# Altium footprint library Ale.PcbLib: 181 footprints (part 6 of 12)
Each footprint in its own frame and in the unit in brackets; x right, y up, seen from the top. Pads: shape width x height; smd on the part's side, far side on the other; paste and mask are expansions set on the pad; w line width, h text height; cw(c..) or ccw(c..) is an arc to the next point about the centre after c.
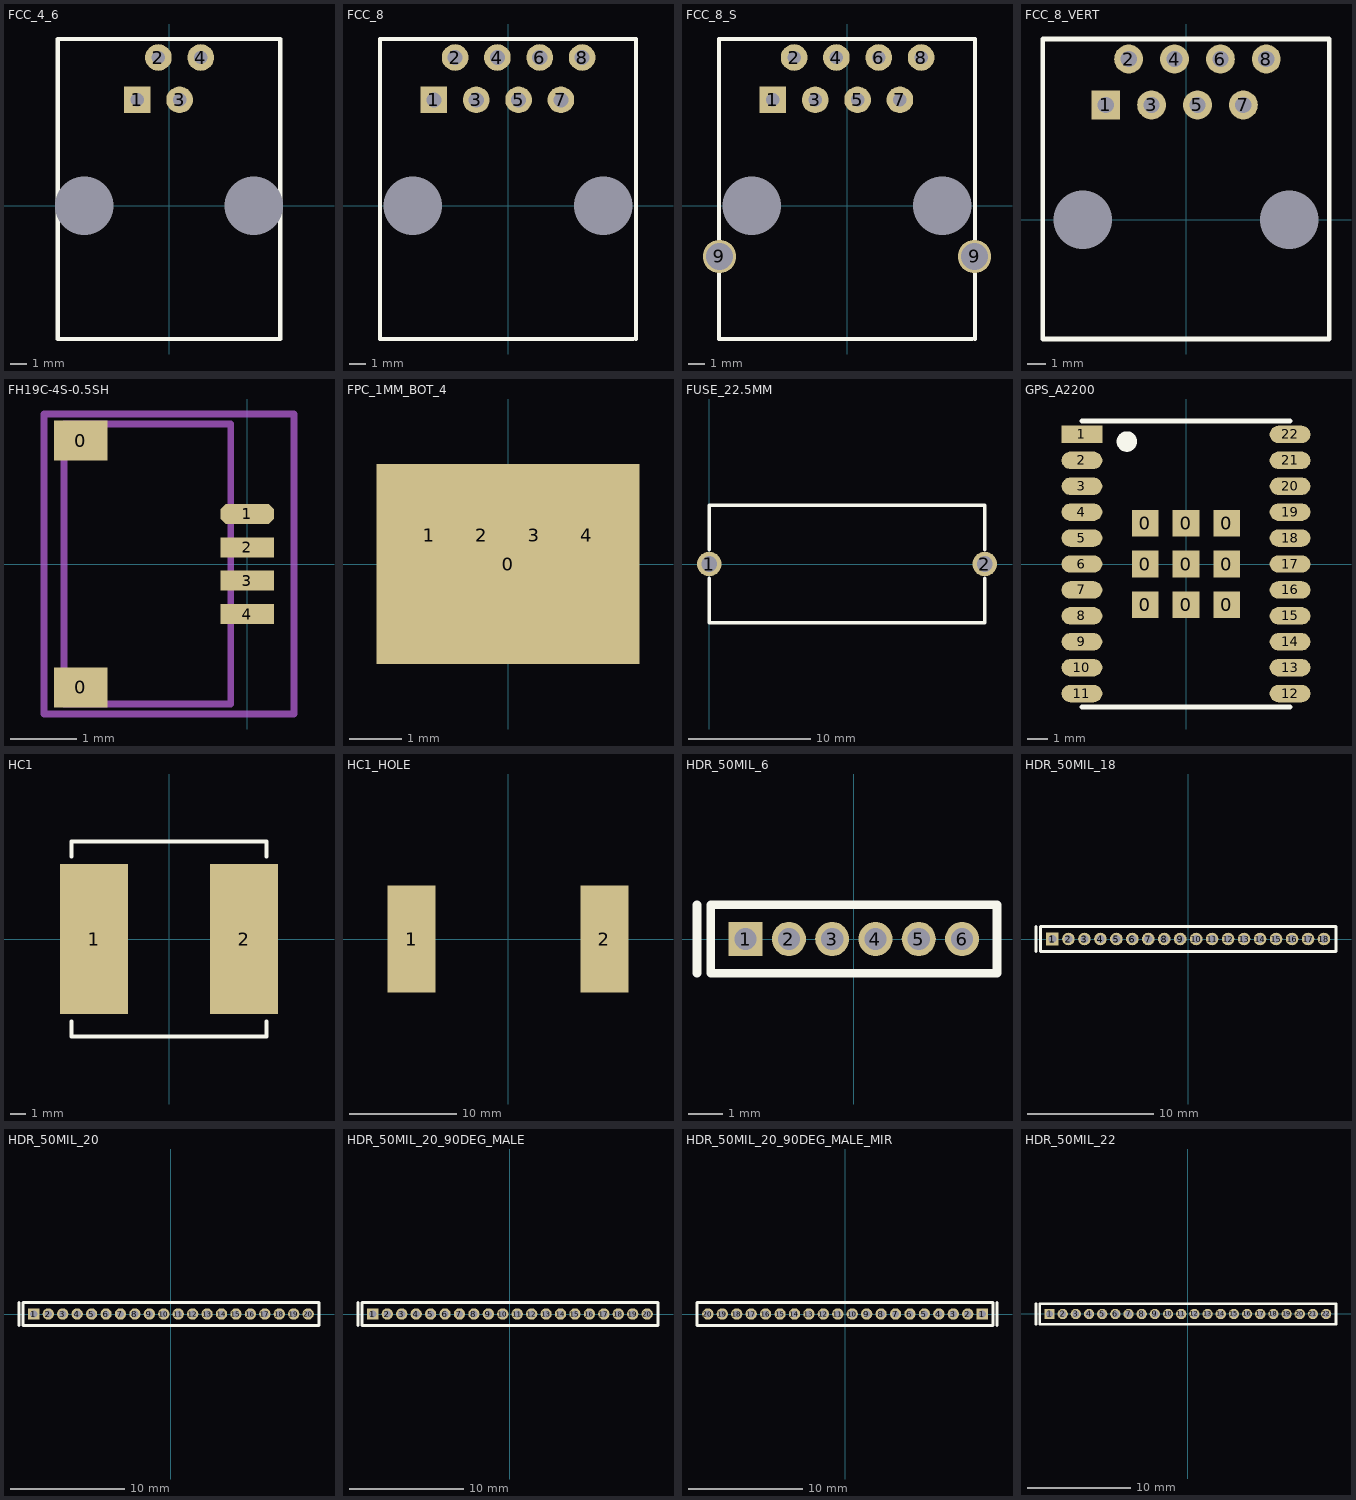
[diagram p5: the footprints below, top view; thin cyan lines are the x and y axes]

## FCC_4_6 [mm] "RJ12 connector"
height 10
pads (6):
  round 0 hole 3.5: 0(-5.08,0) 0(5.08,0)
  rect 1.6x1.6 hole 0.8: 1(-1.905,6.35)
  round 1.6 hole 0.8: 2(-0.635,8.89) 3(0.635,6.35) 4(1.905,8.89)
Top Overlay:
  lines w0.254: -6.67,-8 6.67,-8 6.67,10 -6.67,10 -6.67,-8

## FCC_8 [mm] "RJ45 connector"
height 10
pads (10):
  round 0 hole 3.5: 0(-5.715,0) 0(5.715,0)
  rect 1.6x1.6 hole 0.9: 1(-4.445,6.35)
  round 1.6 hole 0.9: 2(-3.175,8.89) 3(-1.905,6.35) 4(-0.635,8.89) 5(0.635,6.35) 6(1.905,8.89) 7(3.175,6.35) 8(4.445,8.89)
Top Overlay:
  lines w0.254: 7.5,-8 -7.685,-8 -7.685,10 7.685,10 7.685,-8

## FCC_8_S [mm] "RJ45 connector (shielded)"
height 12.5
pads (12):
  round 0 hole 3.5: 0(-5.715,0) 0(5.715,0)
  rect 1.6x1.6 hole 0.8: 1(-4.445,6.35)
  round 1.6 hole 0.8: 2(-3.175,8.89) 3(-1.905,6.35) 4(-0.635,8.89) 5(0.635,6.35) 6(1.905,8.89) 7(3.175,6.35) 8(4.445,8.89)
  round 2 hole 1.6: 9(-7.65,-3.05) 9(7.65,-3.05)
Top Overlay:
  lines w0.254: 7.5,-8 -7.685,-8 -7.685,10 7.685,10 7.685,-8

## FCC_8_VERT [mm] "Vertical RJ45 connector (TE 5520259-4)"
height 16.51
pads (10):
  round 0 hole 3.25: 0(-5.715,0) 0(5.715,0)
  rect 1.6x1.6 hole 0.9: 1(-4.445,6.35)
  round 1.6 hole 0.9: 2(-3.175,8.89) 3(-1.905,6.35) 4(-0.635,8.89) 5(0.635,6.35) 6(1.905,8.89) 7(3.175,6.35) 8(4.445,8.89)
Top Overlay:
  lines w0.254: -7.94,-6.61 7.94,-6.61 7.94,10 -7.94,10 -7.94,-6.61
3D body: height 13.34, standoff 11.94, extent -9.08,-4.07 -7.94,6.73
3D body: height 13.34, standoff 11.94, extent 7.94,-4.07 9.08,6.73
3D body: height 16.51, standoff 0, extent -7.939,-6.609 7.939,9.999

## FH19C-4S-0.5SH [mm] "Board-to-flexible-PCB connector, 4 pins, Body 4.15x3mm, Pitch 0.5mm, IPC Low Density"
height 1
pads (6):
  rect 0.8x0.6 smd: 0(-2.5,-1.85) 0(-2.5,1.85)
  oct 0.8x0.3 smd: 1(0,0.75)
  rect 0.8x0.3 smd: 2(0,0.25) 3(0,-0.25) 4(0,-0.75)
Mechanical 13:
  lines w0.1: -0.25,-0.8 0.25,-0.8 0.25,-0.7 -0.25,-0.7 ; -0.25,-0.3 0.25,-0.3 0.25,-0.2 -0.25,-0.2 ; -0.25,0.2 0.25,0.2 0.25,0.3 -0.25,0.3 ; -0.25,0.7 0.25,0.7 0.25,0.8 -0.25,0.8 ; -2.75,-2.1 -0.25,-2.1 -0.25,2.1 -2.75,2.1 -2.75,-2.1
Mechanical 15:
  lines w0.1: -3.05,-2.25 0.7,-2.25 0.7,2.25 -3.05,2.25 -3.05,-2.25
3D body: height 1, standoff 0, extent -2.75,-2.1 -0.25,2.1
3D body: height 0.3, standoff 0, extent -0.25,-0.85 0.25,-0.65
3D body: height 0.3, standoff 0, extent -0.25,-0.35 0.25,-0.15
3D body: height 0.3, standoff 0, extent -0.25,0.15 0.25,0.35
3D body: height 0.3, standoff 0, extent -0.25,0.65 0.25,0.85
3D body: height 1, standoff 0.7, extent -3.05,-2.1 -2.75,2.1

## FPC_1MM_BOT_4 [mm] "Flexible PCB connector, 1 mm spacing, 4 contacts"
pads (5):
  rect 5x3.8 smd: 0(0,0)
  rect 0.71x2.7 smd far side: 1(-1.5,0.55) 2(-0.5,0.55) 3(0.5,0.55) 4(1.5,0.55)

## FUSE_22.5MM [mm] "Fuse support, 22.5mm wide"
height 11.5
pads (2):
  round 2 hole 1.3: 1(0,0) 2(22.5,0)
Top Overlay:
  lines w0.254: 0,-1.143 0,-4.8 22.5,-4.8 22.5,-1.143 ; 0,1.143 0,4.8 22.5,4.8 22.5,1.143
3D body: height 11.5, standoff 0, extent 0.001,-4.799 22.499,4.799

## GPS_A2200 [mm] "Maestro Wireless A2200-A GPS module"
height 2.5
pads (31):
  rect 1.3x1.3 smd: 0(-2,-2) 0(-2,0) 0(-2,2) 0(0,-2) 0(0,0) 0(0,2) 0(2,-2) 0(2,0) 0(2,2)
  rect 2x0.85 smd: 1(-5.1,6.35)
  oval 2x0.85 smd: 2(-5.1,5.08) 3(-5.1,3.81) 4(-5.1,2.54) 5(-5.1,1.27) 6(-5.1,0) 7(-5.1,-1.27) 8(-5.1,-2.54) 9(-5.1,-3.81) 10(-5.1,-5.08) 11(-5.1,-6.35) 12(5.1,-6.35) 13(5.1,-5.08) 14(5.1,-3.81) 15(5.1,-2.54) 16(5.1,-1.27) 17(5.1,0) 18(5.1,1.27) 19(5.1,2.54) 20(5.1,3.81) 21(5.1,5.08) 22(5.1,6.35)
Top Overlay:
  circle w0.5: c-2.9,6 r0.25
  lines w0.25: -5.1,-7 5.1,-7 ; -5.1,7 5.1,7
3D body: height 2.5, standoff 0, extent -5.099,-6.999 5.099,6.999

## HC1 [mm] "Cooper Bussmann HC1 inductors"
height 10
pads (2):
  rect 4.5x10 smd: 1(-5,0) 2(5,0)
Top Overlay:
  lines w0.25: -6.5,-5.5 -6.5,-6.5 6.5,-6.5 6.5,-5.5 ; -6.5,5.5 -6.5,6.5 6.5,6.5 6.5,5.5
3D body: height 10, standoff 0, extent -6.625,-6.625 6.625,6.625

## HC1_HOLE [mm] "Cooper Bussmann HC1 inductors, inside hole"
pads (2):
  rect 4.5x10 smd: 1(-9,0) 2(9,0)
3D body: height 8.5, standoff 0, extent -6.625,-6.625 6.625,6.625

## HDR_50MIL_6 [mm] "1.27 mm pitch header"
height 3.8
pads (6):
  rect 1x1 hole 0.65: 1(-3.175,0)
  round 1 hole 0.65: 2(-1.905,0) 3(-0.635,0) 4(0.635,0) 5(1.905,0) 6(3.175,0)
Top Overlay:
  lines w0.25: -4.6,-1 -4.6,1 ; -4.2,-1 -4.2,1 4.2,1 4.2,-1 -4.2,-1
3D body: height 3.8, standoff 0, extent -4.2,-1 4.2,1

## HDR_50MIL_18 [mm] "1.27 mm pitch header"
height 3.8
pads (18):
  rect 1x1 hole 0.65: 1(-10.795,0)
  round 1 hole 0.65: 2(-9.525,0) 3(-8.255,0) 4(-6.985,0) 5(-5.715,0) 6(-4.445,0) 7(-3.175,0) 8(-1.905,0) 9(-0.635,0) 10(0.635,0) 11(1.905,0) 12(3.175,0) 13(4.445,0) 14(5.715,0) 15(6.985,0) 16(8.255,0) 17(9.525,0) 18(10.795,0)
Top Overlay:
  lines w0.25: -12.1,-1 -12.1,1 ; -11.75,-1 11.75,-1 11.75,1 -11.75,1 -11.75,-1
3D body: height 3.8, standoff 0, extent -11.75,-1 11.75,1

## HDR_50MIL_20 [mm] "1.27 mm pitch header"
height 3.8
pads (20):
  rect 1x1 hole 0.65: 1(-12.065,0)
  round 1 hole 0.65: 2(-10.795,0) 3(-9.525,0) 4(-8.255,0) 5(-6.985,0) 6(-5.715,0) 7(-4.445,0) 8(-3.175,0) 9(-1.905,0) 10(-0.635,0) 11(0.635,0) 12(1.905,0) 13(3.175,0) 14(4.445,0) 15(5.715,0) 16(6.985,0) 17(8.255,0) 18(9.525,0) 19(10.795,0) 20(12.065,0)
Top Overlay:
  lines w0.25: -13.37,-1 -13.37,1 ; -13.02,-1 -13.02,1 13.02,1 13.02,-1 -13.02,-1
3D body: height 3.8, standoff 0, extent -13.02,-1 13.02,1

## HDR_50MIL_20_90DEG_MALE [mm] "1.27 mm pitch header"
height 2.2
pads (20):
  rect 1x1 hole 0.65: 1(-12.065,0)
  round 1 hole 0.65: 2(-10.795,0) 3(-9.525,0) 4(-8.255,0) 5(-6.985,0) 6(-5.715,0) 7(-4.445,0) 8(-3.175,0) 9(-1.905,0) 10(-0.635,0) 11(0.635,0) 12(1.905,0) 13(3.175,0) 14(4.445,0) 15(5.715,0) 16(6.985,0) 17(8.255,0) 18(9.525,0) 19(10.795,0) 20(12.065,0)
Top Overlay:
  lines w0.25: -13.37,-1 -13.37,1 ; -13.02,-1 13.02,-1 13.02,1 -13.02,1 -13.02,-1
3D body: height 1.3, standoff 0.89, extent -12.27,3.4 -11.86,6.4
3D body: height 1.3, standoff 0.89, extent -11,3.4 -10.59,6.4
3D body: height 1.3, standoff 0.89, extent -9.73,3.4 -9.32,6.4
3D body: height 1.3, standoff 0.89, extent -8.46,3.4 -8.05,6.4
3D body: height 1.3, standoff 0.89, extent -7.19,3.4 -6.78,6.4
3D body: height 1.3, standoff 0.89, extent -5.92,3.4 -5.51,6.4
3D body: height 1.3, standoff 0.89, extent -4.65,3.4 -4.24,6.4
3D body: height 1.3, standoff 0.89, extent -3.38,3.4 -2.97,6.4
3D body: height 1.3, standoff 0.89, extent -2.11,3.4 -1.7,6.4
3D body: height 1.3, standoff 0.89, extent -0.84,3.4 -0.43,6.4
3D body: height 1.3, standoff 0.89, extent 0.43,3.4 0.84,6.4
3D body: height 1.3, standoff 0.89, extent 11.86,3.4 12.27,6.4
3D body: height 1.3, standoff 0.89, extent 9.32,3.4 9.73,6.4
3D body: height 1.3, standoff 0.89, extent 10.59,3.4 11,6.4
3D body: height 1.3, standoff 0.89, extent 8.05,3.4 8.46,6.4
3D body: height 1.3, standoff 0.89, extent 6.78,3.4 7.19,6.4
3D body: height 1.3, standoff 0.89, extent 5.51,3.4 5.92,6.4
3D body: height 1.3, standoff 0.89, extent 4.24,3.4 4.65,6.4
3D body: height 1.3, standoff 0.89, extent 2.97,3.4 3.38,6.4
3D body: height 1.3, standoff 0.89, extent 1.7,3.4 2.11,6.4
3D body: height 2.2, standoff 0, extent -13.03,1.2 12.97,3.4

## HDR_50MIL_20_90DEG_MALE_MIR [mm] "1.27 mm pitch header"
height 2.2
pads (20):
  rect 1x1 hole 0.65: 1(12.065,0)
  round 1 hole 0.65: 2(10.795,0) 3(9.525,0) 4(8.255,0) 5(6.985,0) 6(5.715,0) 7(4.445,0) 8(3.175,0) 9(1.905,0) 10(0.635,0) 11(-0.635,0) 12(-1.905,0) 13(-3.175,0) 14(-4.445,0) 15(-5.715,0) 16(-6.985,0) 17(-8.255,0) 18(-9.525,0) 19(-10.795,0) 20(-12.065,0)
Top Overlay:
  lines w0.25: 13.37,-1 13.37,1 ; -13.02,-1 -13.02,1 13.02,1 13.02,-1 -13.02,-1
3D body: height 2.2, standoff 0, extent -13.03,1.2 12.97,3.4
3D body: height 1.3, standoff 0.89, extent 1.7,3.4 2.11,6.4
3D body: height 1.3, standoff 0.89, extent 2.97,3.4 3.38,6.4
3D body: height 1.3, standoff 0.89, extent 4.24,3.4 4.65,6.4
3D body: height 1.3, standoff 0.89, extent 5.51,3.4 5.92,6.4
3D body: height 1.3, standoff 0.89, extent 6.78,3.4 7.19,6.4
3D body: height 1.3, standoff 0.89, extent 8.05,3.4 8.46,6.4
3D body: height 1.3, standoff 0.89, extent 10.59,3.4 11,6.4
3D body: height 1.3, standoff 0.89, extent 9.32,3.4 9.73,6.4
3D body: height 1.3, standoff 0.89, extent 11.86,3.4 12.27,6.4
3D body: height 1.3, standoff 0.89, extent 0.43,3.4 0.84,6.4
3D body: height 1.3, standoff 0.89, extent -0.84,3.4 -0.43,6.4
3D body: height 1.3, standoff 0.89, extent -2.11,3.4 -1.7,6.4
3D body: height 1.3, standoff 0.89, extent -3.38,3.4 -2.97,6.4
3D body: height 1.3, standoff 0.89, extent -4.65,3.4 -4.24,6.4
3D body: height 1.3, standoff 0.89, extent -5.92,3.4 -5.51,6.4
3D body: height 1.3, standoff 0.89, extent -7.19,3.4 -6.78,6.4
3D body: height 1.3, standoff 0.89, extent -8.46,3.4 -8.05,6.4
3D body: height 1.3, standoff 0.89, extent -9.73,3.4 -9.32,6.4
3D body: height 1.3, standoff 0.89, extent -11,3.4 -10.59,6.4
3D body: height 1.3, standoff 0.89, extent -12.27,3.4 -11.86,6.4

## HDR_50MIL_22 [mm] "1.27 mm pitch header"
height 3.8
pads (22):
  rect 1x1 hole 0.65: 1(-13.335,0)
  round 1 hole 0.65: 2(-12.065,0) 3(-10.795,0) 4(-9.525,0) 5(-8.255,0) 6(-6.985,0) 7(-5.715,0) 8(-4.445,0) 9(-3.175,0) 10(-1.905,0) 11(-0.635,0) 12(0.635,0) 13(1.905,0) 14(3.175,0) 15(4.445,0) 16(5.715,0) 17(6.985,0) 18(8.255,0) 19(9.525,0) 20(10.795,0) 21(12.065,0) 22(13.335,0)
Top Overlay:
  lines w0.25: -14.64,-1 -14.64,1 ; -14.29,-1 14.29,-1 14.29,1 -14.29,1 -14.29,-1
3D body: height 3.8, standoff 0, extent -14.29,-1 14.29,1